# EAGLE library part TRS3232E (library IC & Transistor)
TRS3232E Multichannel RS-232 Line Driver and Receiver Created by: Wai Weng
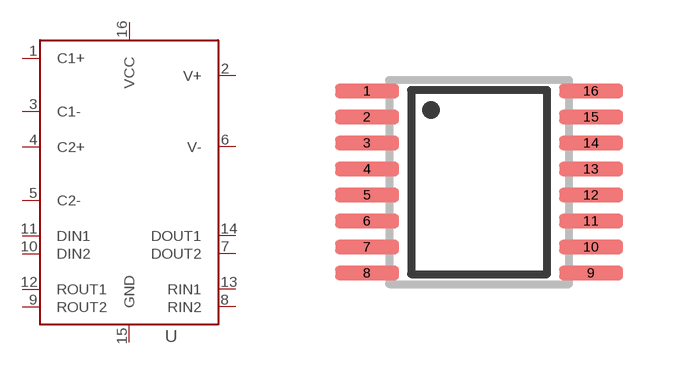
[diagram p86: symbol with the pads of TSSOP-16; footprint TSSOP-16]

Designator prefix U

## TRS3232E (DESC: S TRS3232E RS232 Driver TSSOP16; MF: Texas Instruments; MPN: TRS3232E)  [TSSOP-16]
1  C1+
2  V+
3  C1-
4  C2+
5  C2-
6  V-
7  DOUT2
8  RIN2
9  ROUT2
10  DIN2
11  DIN1
12  ROUT1
13  RIN1
14  DOUT1
15  GND
16  VCC

## Footprint TSSOP-16 (pad centres in mm)
TSSOP-16 (R-PDSO-G16) Size: 5.1mm x 4.5mm Pitch: 0.65mm Modified by: Wai Weng
smd 1.6 x 0.35: 1 -2.8,2.275; 2 -2.8,1.625; 3 -2.8,0.975; 4 -2.8,0.325; 5 -2.8,-0.325; 6 -2.8,-0.975; 7 -2.8,-1.625; 8 -2.8,-2.275; 9 2.8,-2.275; 10 2.8,-1.625; 11 2.8,-0.975; 12 2.8,-0.325; 13 2.8,0.325; 14 2.8,0.975; 15 2.8,1.625; 16 2.8,2.275